# EAGLE library part CY8C21534 (library cypressmicro)
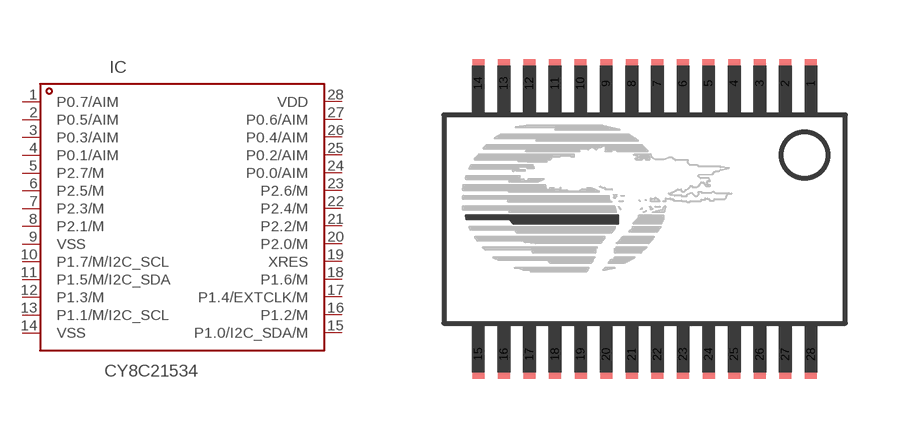
[diagram p5: symbol with the pads of SSOP28; footprint SSOP28]

Designator prefix IC

## CY8C21534-24PVXI  [SSOP28]
1  P0.7/AIM
2  P0.5/AIM
3  P0.3/AIM
4  P0.1/AIM
5  P2.7/M
6  P2.5/M
7  P2.3/M
8  P2.1/M
9  VSS
10  P1.7/M/I2C_SCL
11  P1.5/M/I2C_SDA
12  P1.3/M
13  P1.1/M/I2C_SCL
14  VSS
15  P1.0/I2C_SDA/M
16  P1.2/M
17  P1.4/EXTCLK/M
18  P1.6/M
19  XRES
20  P2.0/M
21  P2.2/M
22  P2.4/M
23  P2.6/M
24  P0.0/AIM
25  P0.2/AIM
26  P0.4/AIM
27  P0.6/AIM
28  VDD

## Footprint SSOP28 (pad centres in mm)
Shrunk Small Outline Package with 28 Pins
smd 0.305 x 1.245: 1 4.224,3.441; 2 3.574,3.441; 3 2.924,3.441; 4 2.274,3.441; 5 1.624,3.441; 6 0.974,3.441; 7 0.325,3.44; 8 -0.326,3.441; 9 -0.976,3.441; 10 -1.626,3.441; 11 -2.276,3.441; 12 -2.926,3.441; 13 -3.576,3.441; 14 -4.226,3.441; 15 -4.224,-3.441; 16 -3.574,-3.441; 17 -2.924,-3.441; 18 -2.274,-3.441; 19 -1.624,-3.441; 20 -0.974,-3.441; 21 -0.324,-3.441; 22 0.326,-3.441; 23 0.976,-3.441; 24 1.626,-3.441; 25 2.276,-3.441; 26 2.926,-3.441; 27 3.576,-3.441; 28 4.226,-3.441